# EAGLE library part AD9200 (library ad9200)
10-Bit, 20 MSPS, 80 mW CMOS A/D Converter
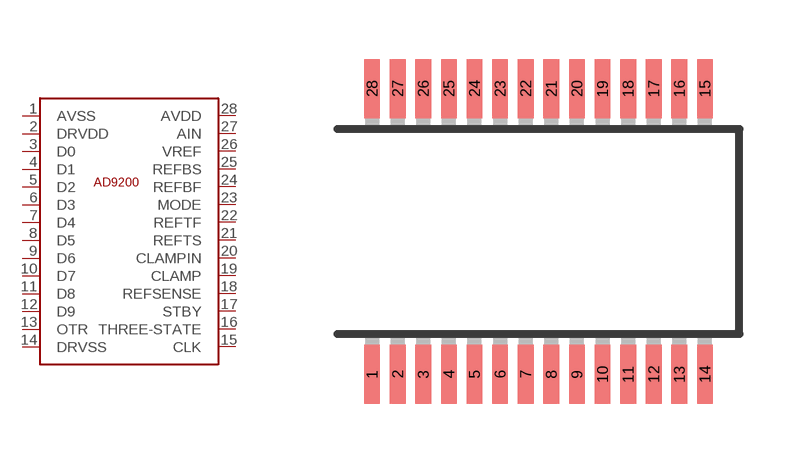
[diagram p0: symbol with the pads of SSOP28; footprint SSOP28]

Designator prefix -

## AD9200ARZ  [SSOP28]
1  AVSS
2  DRVDD
3  D0
4  D1
5  D2
6  D3
7  D4
8  D5
9  D6
10  D7
11  D8
12  D9
13  OTR
14  DRVSS
15  CLK
16  THREE-STATE
17  STBY
18  REFSENSE
19  CLAMP
20  CLAMPIN
21  REFTS
22  REFTF
23  MODE
24  REFBF
25  REFBS
26  VREF
27  AIN
28  AVDD

## Footprint SSOP28 (pad centres in mm)
28-Lead Shrink Small Outline Package (SSOP)
smd 0.4 x 1.5: 1 -4.225,-3.625; 2 -3.575,-3.625; 3 -2.925,-3.625; 4 -2.275,-3.625; 5 -1.625,-3.625; 6 -0.975,-3.625; 7 -0.325,-3.625; 8 0.325,-3.625; 9 0.975,-3.625; 10 1.625,-3.625; 11 2.275,-3.625; 12 2.925,-3.625; 13 3.575,-3.625; 14 4.225,-3.625; 15 4.225,3.625; 16 3.575,3.625; 17 2.925,3.625; 18 2.275,3.625; 19 1.625,3.625; 20 0.975,3.625; 21 0.325,3.625; 22 -0.325,3.625; 23 -0.975,3.625; 24 -1.625,3.625; 25 -2.275,3.625; 26 -2.925,3.625; 27 -3.575,3.625; 28 -4.225,3.625